# EAGLE library part MM74HC589M (library Fairchild_By_element14_Batch_1)
8-Bit Shift Registers
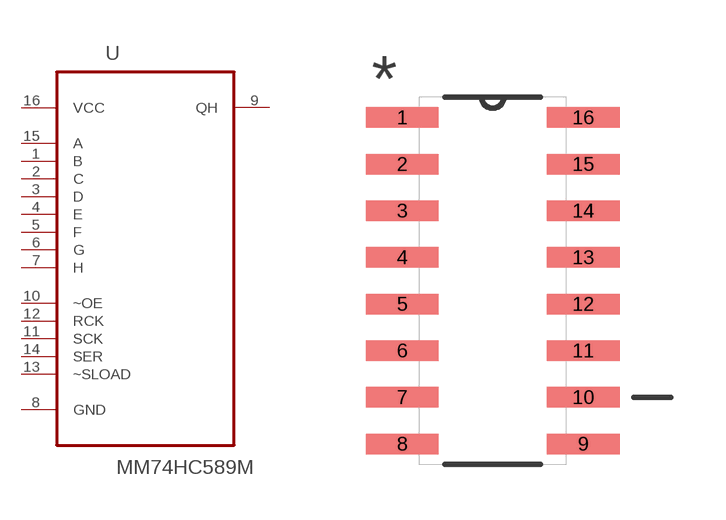
[diagram p300: symbol with the pads of SOIC127P600X175-16N; footprint SOIC127P600X175-16N]

Designator prefix U

## MM74HC589M (MPN: MM74HC589M; OC_FARNELL: 1013858; OC_NEWARK: 82C9251; PACKAGE: SOIC-16; SUPPLIER: Fairchild)  [SOIC127P600X175-16N]
1  B  in
2  C  in
3  D  in
4  E  in
5  F  in
6  G  in
7  H  in
8  GND  pas
9  QH  out
10  ~OE  in
11  SCK  in
12  RCK  in
13  ~SLOAD  in
14  SER  in
15  A  in
16  VCC  pwr

## Footprint SOIC127P600X175-16N (pad centres in mm)
smd 1.981 x 0.559: 1 -2.464,4.445; 2 -2.464,3.175; 3 -2.464,1.905; 4 -2.464,0.635; 5 -2.464,-0.635; 6 -2.464,-1.905; 7 -2.464,-3.175; 8 -2.464,-4.445; 9 2.464,-4.445; 10 2.464,-3.175; 11 2.464,-1.905; 12 2.464,-0.635; 13 2.464,0.635; 14 2.464,1.905; 15 2.464,3.175; 16 2.464,4.445